# EAGLE library part LT1358CS8#PBF (library filtercard_parts)
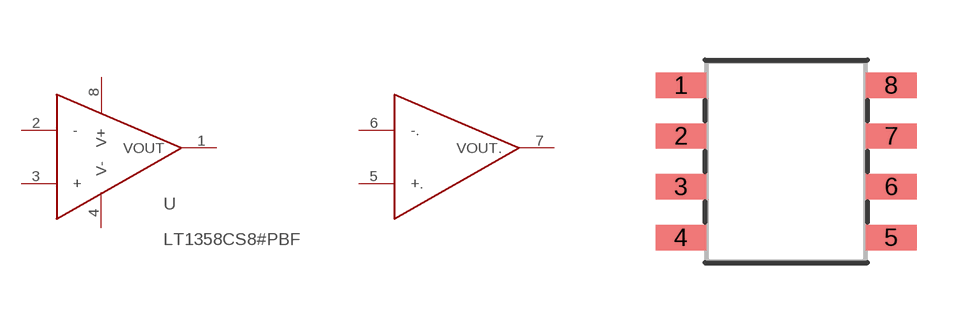
[diagram p2: symbol with the pads of 8-SOIC; footprint 8-SOIC]

Designator prefix -

## LT1358CS8#PBF  [8-SOIC]
1  VOUT
2  -
3  +
4  V-
5  +.
6  -.
7  VOUT.
8  V+

## Footprint 8-SOIC (pad centres in mm)
smd 1.27 x 0.635: 1 -2.629,1.905; 2 -2.629,0.635; 3 -2.629,-0.635; 4 -2.629,-1.905; 5 2.629,-1.905; 6 2.629,-0.635; 7 2.629,0.635; 8 2.629,1.905